# Altium integrated library Allegro Interface DC & Stepper Motor Controller.IntLib: 11 symbols
Pins are listed as number, name and electrical type; pins without a type are passive.

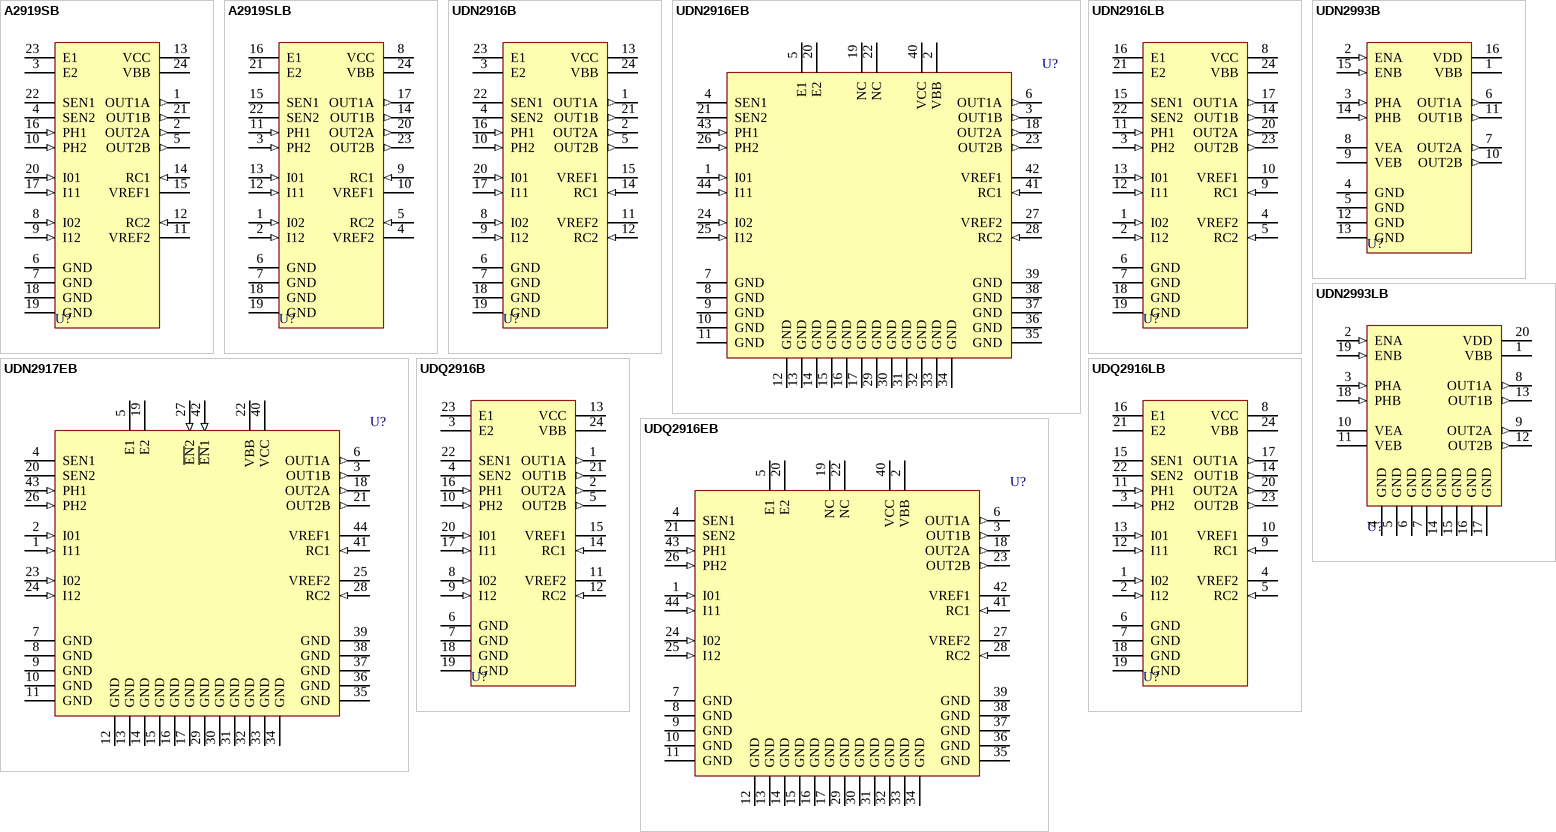
[diagram p0: symbols A2919SB to UDQ2916LB]

## A2919SB
designator U?
Dual Full-Bridge PWM Motor Driver; Note: Pins (6,7) and (18,19) exist as TABS; all are internally connected (GND).; Published: 13-Oct-2000; LatestRevisionDate: 06-Jun-2005; LatestRevisionNote: Stylized 3D Model Added.; DatasheetVersion: 1995; PackageVersion: 1995; PackageReference: B24; Publisher: Altium Limited; PackageDescription: DIP; 24 Leads; Row Spacing 7.62 mm; Pitch 2.54 mm; Code_JEDEC: MS-001-AF; ComponentLink1Description: Manufacturer Link; ComponentLink1URL: http://www.allegromicro.com/; ComponentLink2Description: Datasheet; ComponentLink2URL: http://www.allegromicro.com/datafile/2919.pdf
footprint B24 (DIP; 24 Leads; Row Spacing 7.62 mm; Pitch 2.54 mm)
3D model B24 (DIP; 24 Leads; Row Spacing 7.62 mm; Pitch 2.54 mm)
pins: 1 OUT1A (out), 2 OUT2A (out), 3 E2, 4 SEN2, 5 OUT2B (out), 6 GND (power), 7 GND (power), 8 I02 (in), 9 I12 (in), 10 PH2 (in), 11 VREF2 (power), 12 RC2 (in), 13 VCC (power), 14 RC1 (in), 15 VREF1 (power), 16 PH1 (in), 17 I11 (in), 18 GND (power), 19 GND (power), 20 I01 (in), 21 OUT1B (out), 22 SEN1, 23 E1, 24 VBB (power)

## A2919SLB
designator U?
Dual Full-Bridge PWM Motor Driver; Note: Pins (6,7) and (18,19) exist as TABS; all are internally connected (GND).; Published: 13-Oct-2000; LatestRevisionDate: 13-Apr-2006; LatestRevisionNote: IPC-7351 Footprint Added.; DatasheetVersion: 1995; PackageVersion: 1995; PackageReference: LB24; Publisher: Altium Limited; PackageDescription: 24-Pin Small Outline Integrated Circuit 1.27 mm Pitch; ComponentLink1Description: Manufacturer Link; ComponentLink1URL: http://www.allegromicro.com/; ComponentLink2Description: Datasheet; ComponentLink2URL: http://www.allegromicro.com/datafile/2919.pdf
footprint LB24_N (SOIC, 24-Leads, Body 15.4x7.5mm, Pitch 1.27mm, IPC Medium Density)
footprint LB24_L (SOIC, 24-Leads, Body 15.4x7.5mm, Pitch 1.27mm, IPC High Density)
footprint LB24_M (SOIC, 24-Leads, Body 15.4x7.5mm, Pitch 1.27mm, IPC Low Density)
3D model LB24 (24-Pin Small Outline Integrated Circuit 1.27 mm Pitch)
pins: 1 I02 (in), 2 I12 (in), 3 PH2 (in), 4 VREF2 (power), 5 RC2 (in), 6 GND (power), 7 GND (power), 8 VCC (power), 9 RC1 (in), 10 VREF1 (power), 11 PH1 (in), 12 I11 (in), 13 I01 (in), 14 OUT1B (out), 15 SEN1, 16 E1, 17 OUT1A (out), 18 GND (power), 19 GND (power), 20 OUT2A (out), 21 E2, 22 SEN2, 23 OUT2B (out), 24 VBB (power)

## UDN2916B
designator U?
Dual Full-Bridge PWM Motor Driver; Note: Pins (6,7) and (18,19) exist as TABS; all are internally connected (GND).; Published: 13-Oct-2000; LatestRevisionDate: 06-Jun-2005; LatestRevisionNote: Stylized 3D Model Added.; DatasheetVersion: 1995; PackageVersion: 1995; PackageReference: B24; Publisher: Altium Limited; PackageDescription: DIP; 24 Leads; Row Spacing 7.62 mm; Pitch 2.54 mm; Code_JEDEC: MS-001-AF; ComponentLink1Description: Manufacturer Link; ComponentLink1URL: http://www.allegromicro.com/; ComponentLink2Description: Datasheet; ComponentLink2URL: http://www.allegromicro.com/datafile/2916.pdf
footprint B24 (DIP; 24 Leads; Row Spacing 7.62 mm; Pitch 2.54 mm)
3D model B24 (DIP; 24 Leads; Row Spacing 7.62 mm; Pitch 2.54 mm)
pins: 1 OUT1A (out), 2 OUT2A (out), 3 E2, 4 SEN2, 5 OUT2B (out), 6 GND (power), 7 GND (power), 8 I02 (in), 9 I12 (in), 10 PH2 (in), 11 VREF2 (power), 12 RC2 (in), 13 VCC (power), 14 RC1 (in), 15 VREF1 (power), 16 PH1 (in), 17 I11 (in), 18 GND (power), 19 GND (power), 20 I01 (in), 21 OUT1B (out), 22 SEN1, 23 E1, 24 VBB (power)

## UDN2916EB
designator U?
Dual Full-Bridge PWM Motor Driver; Note: Pins (7-17) and (29-39) exist as TABS; all are internally connected (GND).; Published: 13-Oct-2000; LatestRevisionDate: 13-Apr-2006; LatestRevisionNote: IPC-7351 Footprint Added.; DatasheetVersion: 1995; PackageVersion: 1995; PackageReference: EB44; Publisher: Altium Limited; PackageDescription: 44-Pin Leaded Chip Carrier 1.27 mm Pitch; Code_IPC: PLCC-44; ComponentLink1Description: Manufacturer Link; ComponentLink1URL: http://www.allegromicro.com/; ComponentLink2Description: Datasheet; ComponentLink2URL: http://www.allegromicro.com/datafile/2916.pdf
footprint EB44_N (Leaded Chip Carrier, 44-Leads, Body 16.6x16.6mm, Pitch 1.27mm, IPC Medium Density)
footprint EB44_L (Leaded Chip Carrier, 44-Leads, Body 16.6x16.6mm, Pitch 1.27mm, IPC High Density)
footprint EB44_M (Leaded Chip Carrier, 44-Leads, Body 16.6x16.6mm, Pitch 1.27mm, IPC Low Density)
3D model UDN2916-EB44 (44-Pin Leaded Chip Carrier 1.27 mm Pitch)
pins: 1 I01 (in), 2 VBB (power), 3 OUT1B (out), 4 SEN1, 5 E1, 6 OUT1A (out), 7 GND (power), 8 GND (power), 9 GND (power), 10 GND (power), 11 GND (power), 12 GND (power), 13 GND (power), 14 GND (power), 15 GND (power), 16 GND (power), 17 GND (power), 18 OUT2A (out), 19 NC, 20 E2, 21 SEN2, 22 NC, 23 OUT2B (out), 24 I02 (in), 25 I12 (in), 26 PH2 (in), 27 VREF2 (power), 28 RC2 (in), 29 GND (power), 30 GND (power), 31 GND (power), 32 GND (power), 33 GND (power), 34 GND (power), 35 GND (power), 36 GND (power), 37 GND (power), 38 GND (power), 39 GND (power), 40 VCC (power), 41 RC1 (in), 42 VREF1 (power), 43 PH1 (in), 44 I11 (in)

## UDN2916LB
designator U?
Dual Full-Bridge PWM Motor Driver; Note: Pins (6,7) and (18,19) exist as TABS; all are internally connected (GND).; Published: 13-Oct-2000; LatestRevisionDate: 13-Apr-2006; LatestRevisionNote: IPC-7351 Footprint Added.; DatasheetVersion: 1995; PackageVersion: 1995; PackageReference: LB24; Publisher: Altium Limited; PackageDescription: 24-Pin Small Outline Integrated Circuit 1.27 mm Pitch; ComponentLink1Description: Manufacturer Link; ComponentLink1URL: http://www.allegromicro.com/; ComponentLink2Description: Datasheet; ComponentLink2URL: http://www.allegromicro.com/datafile/2916.pdf
footprint LB24_N (SOIC, 24-Leads, Body 15.4x7.5mm, Pitch 1.27mm, IPC Medium Density)
footprint LB24_L (SOIC, 24-Leads, Body 15.4x7.5mm, Pitch 1.27mm, IPC High Density)
footprint LB24_M (SOIC, 24-Leads, Body 15.4x7.5mm, Pitch 1.27mm, IPC Low Density)
3D model LB24 (24-Pin Small Outline Integrated Circuit 1.27 mm Pitch)
pins: 1 I02 (in), 2 I12 (in), 3 PH2 (in), 4 VREF2 (power), 5 RC2 (in), 6 GND (power), 7 GND (power), 8 VCC (power), 9 RC1 (in), 10 VREF1 (power), 11 PH1 (in), 12 I11 (in), 13 I01 (in), 14 OUT1B (out), 15 SEN1, 16 E1, 17 OUT1A (out), 18 GND (power), 19 GND (power), 20 OUT2A (out), 21 E2, 22 SEN2, 23 OUT2B (out), 24 VBB (power)

## UDN2917EB
designator U?
Dual Full-Bridge PWM Motor Driver; Note: Pins (7-17) and (29-39) exist as TABS; all are internally connected (GND).; ComponentAvailability: Obsolete; Published: 13-Oct-2000; LatestRevisionDate: 13-Apr-2006; LatestRevisionNote: IPC-7351 Footprint Added.; DatasheetVersion: 1995; PackageVersion: 1995; PackageReference: EB44; Publisher: Altium Limited; PackageDescription: 44-Pin Leaded Chip Carrier 1.27 mm Pitch; Code_IPC: PLCC-44; ComponentLink1Description: Manufacturer Link; ComponentLink1URL: http://www.allegromicro.com/; ComponentLink2Description: Datasheet; ComponentLink2URL: http://www.allegromicro.com/datafile/archive/2917.pdf
footprint EB44_N (Leaded Chip Carrier, 44-Leads, Body 16.6x16.6mm, Pitch 1.27mm, IPC Medium Density)
footprint EB44_L (Leaded Chip Carrier, 44-Leads, Body 16.6x16.6mm, Pitch 1.27mm, IPC High Density)
footprint EB44_M (Leaded Chip Carrier, 44-Leads, Body 16.6x16.6mm, Pitch 1.27mm, IPC Low Density)
3D model UDN2917-EB44 (44-Pin Leaded Chip Carrier 1.27 mm Pitch)
pins: 1 I11 (in), 2 I01 (in), 3 OUT1B (out), 4 SEN1, 5 E1, 6 OUT1A (out), 7 GND (power), 8 GND (power), 9 GND (power), 10 GND (power), 11 GND (power), 12 GND (power), 13 GND (power), 14 GND (power), 15 GND (power), 16 GND (power), 17 GND (power), 18 OUT2A (out), 19 E2, 20 SEN2, 21 OUT2B (out), 22 VBB (power), 23 I02 (in), 24 I12 (in), 25 VREF2 (power), 26 PH2 (in), 27 ~{EN}2 (in), 28 RC2 (in), 29 GND (power), 30 GND (power), 31 GND (power), 32 GND (power), 33 GND (power), 34 GND (power), 35 GND (power), 36 GND (power), 37 GND (power), 38 GND (power), 39 GND (power), 40 VCC (power), 41 RC1 (in), 42 ~{EN}1 (in), 43 PH1 (in), 44 VREF1 (power)

## UDN2993B
designator U?
Dual H-Bidge Motor Driver; Note: Pins (4,5) and (12,13) exist as TABS; all are internally connected (GND).; ComponentAvailability: Obsolete; Published: 13-Oct-2000; LatestRevisionDate: 06-Jun-2005; LatestRevisionNote: Stylized 3D Model Added.; DatasheetVersion: 1995; PackageVersion: 1994; PackageReference: B16; Publisher: Altium Limited; PackageDescription: DIP; 16 Leads; Row Spacing 7.62 mm; Pitch 2.54 mm; Code_JEDEC: MS-001-BB; ComponentLink1Description: Manufacturer Link; ComponentLink1URL: http://www.allegromicro.com/; ComponentLink2Description: Datasheet; ComponentLink2URL: http://www.allegromicro.com/datafile/archive/2993.pdf
footprint B16 (DIP; 16 Leads; Row Spacing 7.62 mm; Pitch 2.54 mm)
3D model B16 (DIP; 16 Leads; Row Spacing 7.62 mm; Pitch 2.54 mm)
pins: 1 VBB (power), 2 ENA (in), 3 PHA (in), 4 GND (power), 5 GND (power), 6 OUT1A (out), 7 OUT2A (out), 8 VEA (power), 9 VEB (power), 10 OUT2B (out), 11 OUT1B (out), 12 GND (power), 13 GND (power), 14 PHB (in), 15 ENB (in), 16 VDD (power)

## UDN2993LB
designator U?
Dual H-Bidge Motor Driver; Note: Pins (4-7) and (14-17) exist as TABS; all are internally connected (GND).; ComponentAvailability: Obsolete; Published: 13-Oct-2000; LatestRevisionDate: 13-Apr-2006; LatestRevisionNote: IPC-7351 Footprint Added.; DatasheetVersion: 1995; PackageVersion: 1995; PackageReference: LB20; Publisher: Altium Limited; PackageDescription: 20-Pin Small Outline Integrated Circuit 1.27 mm Pitch; Code_JEDEC: MS-013-AC; Code_IPC: SOIC127P1030-20; ComponentLink1Description: Manufacturer Link; ComponentLink1URL: http://www.allegromicro.com/; ComponentLink2Description: Datasheet; ComponentLink2URL: http://www.allegromicro.com/datafile/archive/2993.pdf
footprint LB20_N (SOIC, 20-Leads, Body 12.8x7.5mm, Pitch 1.27mm, IPC Medium Density)
footprint LB20_L (SOIC, 20-Leads, Body 12.8x7.5mm, Pitch 1.27mm, IPC High Density)
footprint LB20_M (SOIC, 20-Leads, Body 12.8x7.5mm, Pitch 1.27mm, IPC Low Density)
3D model LB20 (20-Pin Small Outline Integrated Circuit 1.27 mm Pitch)
pins: 1 VBB (power), 2 ENA (in), 3 PHA (in), 4 GND (power), 5 GND (power), 6 GND (power), 7 GND (power), 8 OUT1A (out), 9 OUT2A (out), 10 VEA (power), 11 VEB (power), 12 OUT2B (out), 13 OUT1B (out), 14 GND (power), 15 GND (power), 16 GND (power), 17 GND (power), 18 PHB (in), 19 ENB (in), 20 VDD (power)

## UDQ2916B
designator U?
Dual Full-Bridge PWM Motor Driver; Note: Pins (6,7) and (18,19) exist as TABS; all are internally connected (GND).; Published: 13-Oct-2000; LatestRevisionDate: 06-Jun-2005; LatestRevisionNote: Stylized 3D Model Added.; DatasheetVersion: 1995; PackageVersion: 1995; PackageReference: B24; Publisher: Altium Limited; PackageDescription: DIP; 24 Leads; Row Spacing 7.62 mm; Pitch 2.54 mm; Code_JEDEC: MS-001-AF; ComponentLink1Description: Manufacturer Link; ComponentLink1URL: http://www.allegromicro.com/; ComponentLink2Description: Datasheet; ComponentLink2URL: http://www.allegromicro.com/datafile/2916.pdf
footprint B24 (DIP; 24 Leads; Row Spacing 7.62 mm; Pitch 2.54 mm)
3D model B24 (DIP; 24 Leads; Row Spacing 7.62 mm; Pitch 2.54 mm)
pins: 1 OUT1A (out), 2 OUT2A (out), 3 E2, 4 SEN2, 5 OUT2B (out), 6 GND (power), 7 GND (power), 8 I02 (in), 9 I12 (in), 10 PH2 (in), 11 VREF2 (power), 12 RC2 (in), 13 VCC (power), 14 RC1 (in), 15 VREF1 (power), 16 PH1 (in), 17 I11 (in), 18 GND (power), 19 GND (power), 20 I01 (in), 21 OUT1B (out), 22 SEN1, 23 E1, 24 VBB (power)

## UDQ2916EB
designator U?
Dual Full-Bridge PWM Motor Driver; Note: Pins (7-17) and (29-39) exist as TABS; all are internally connected (GND).; Published: 13-Oct-2000; LatestRevisionDate: 13-Apr-2006; LatestRevisionNote: IPC-7351 Footprint Added.; DatasheetVersion: 1995; PackageVersion: 1995; PackageReference: EB44; Publisher: Altium Limited; PackageDescription: 44-Pin Leaded Chip Carrier 1.27 mm Pitch; Code_IPC: PLCC-44; ComponentLink1Description: Manufacturer Link; ComponentLink1URL: http://www.allegromicro.com/; ComponentLink2Description: Datasheet; ComponentLink2URL: http://www.allegromicro.com/datafile/2916.pdf
footprint EB44_N (Leaded Chip Carrier, 44-Leads, Body 16.6x16.6mm, Pitch 1.27mm, IPC Medium Density)
footprint EB44_L (Leaded Chip Carrier, 44-Leads, Body 16.6x16.6mm, Pitch 1.27mm, IPC High Density)
footprint EB44_M (Leaded Chip Carrier, 44-Leads, Body 16.6x16.6mm, Pitch 1.27mm, IPC Low Density)
3D model UDQ2916-EB44 (44-Pin Leaded Chip Carrier 1.27 mm Pitch)
pins: 1 I01 (in), 2 VBB (power), 3 OUT1B (out), 4 SEN1, 5 E1, 6 OUT1A (out), 7 GND (power), 8 GND (power), 9 GND (power), 10 GND (power), 11 GND (power), 12 GND (power), 13 GND (power), 14 GND (power), 15 GND (power), 16 GND (power), 17 GND (power), 18 OUT2A (out), 19 NC, 20 E2, 21 SEN2, 22 NC, 23 OUT2B (out), 24 I02 (in), 25 I12 (in), 26 PH2 (in), 27 VREF2 (power), 28 RC2 (in), 29 GND (power), 30 GND (power), 31 GND (power), 32 GND (power), 33 GND (power), 34 GND (power), 35 GND (power), 36 GND (power), 37 GND (power), 38 GND (power), 39 GND (power), 40 VCC (power), 41 RC1 (in), 42 VREF1 (power), 43 PH1 (in), 44 I11 (in)

## UDQ2916LB
designator U?
Dual Full-Bridge PWM Motor Driver; Note: Pins (6,7) and (18,19) exist as TABS; all are internally connected (GND).; Published: 13-Oct-2000; LatestRevisionDate: 13-Apr-2006; LatestRevisionNote: IPC-7351 Footprint Added.; DatasheetVersion: 1995; PackageVersion: 1995; PackageReference: LB24; Publisher: Altium Limited; PackageDescription: 24-Pin Small Outline Integrated Circuit 1.27 mm Pitch; ComponentLink1Description: Manufacturer Link; ComponentLink1URL: http://www.allegromicro.com/; ComponentLink2Description: Datasheet; ComponentLink2URL: http://www.allegromicro.com/datafile/2916.pdf
footprint LB24_N (SOIC, 24-Leads, Body 15.4x7.5mm, Pitch 1.27mm, IPC Medium Density)
footprint LB24_L (SOIC, 24-Leads, Body 15.4x7.5mm, Pitch 1.27mm, IPC High Density)
footprint LB24_M (SOIC, 24-Leads, Body 15.4x7.5mm, Pitch 1.27mm, IPC Low Density)
3D model LB24 (24-Pin Small Outline Integrated Circuit 1.27 mm Pitch)
pins: 1 I02 (in), 2 I12 (in), 3 PH2 (in), 4 VREF2 (power), 5 RC2 (in), 6 GND (power), 7 GND (power), 8 VCC (power), 9 RC1 (in), 10 VREF1 (power), 11 PH1 (in), 12 I11 (in), 13 I01 (in), 14 OUT1B (out), 15 SEN1, 16 E1, 17 OUT1A (out), 18 GND (power), 19 GND (power), 20 OUT2A (out), 21 E2, 22 SEN2, 23 OUT2B (out), 24 VBB (power)